# Altium schematic symbol library 电阻.SchLib: 4 symbols
Pins are listed as number, name and electrical type; pins without a type are passive.

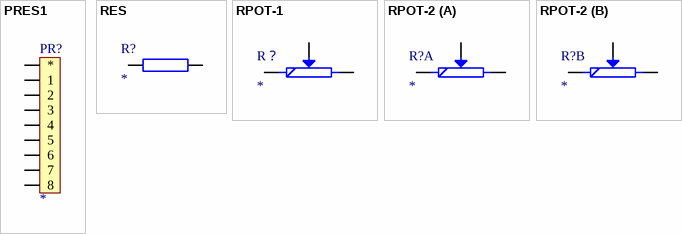
[diagram p0: symbols PRES1 to RPOT-2]

## PRES1
designator PR?
footprint RP1
pins: 1 *, 2 1, 3 2, 4 3, 5 4, 6 5, 7 6, 8 7, 9 8

## RES
designator R?
电阻
footprint 0603
footprint 0805
footprint 1206
footprint AXIAL0.4
footprint AXIAL0.5
footprint AXIAL0.6
pins: 1, 2

## RPOT-1
designator R？
普通电位器
footprint RVR-A
footprint RVR-7
footprint RVR-4 (Top Preset Potentiometer,3296W)
footprint RVR-2
pins: 1, 2 M, 3

## RPOT-2
designator R?
双联电位器
footprint RVR-B
part A pins: 1, 2 W, 3
part B pins: 1, 2 W, 3